# Altium footprint library cy.PcbLib: 99 footprints (part 3 of 7)
Each footprint in its own frame and in the unit in brackets; x right, y up, seen from the top. Pads: shape width x height; smd on the part's side, far side on the other; paste and mask are expansions set on the pad; w line width, h text height; cw(c..) or ccw(c..) is an arc to the next point about the centre after c.
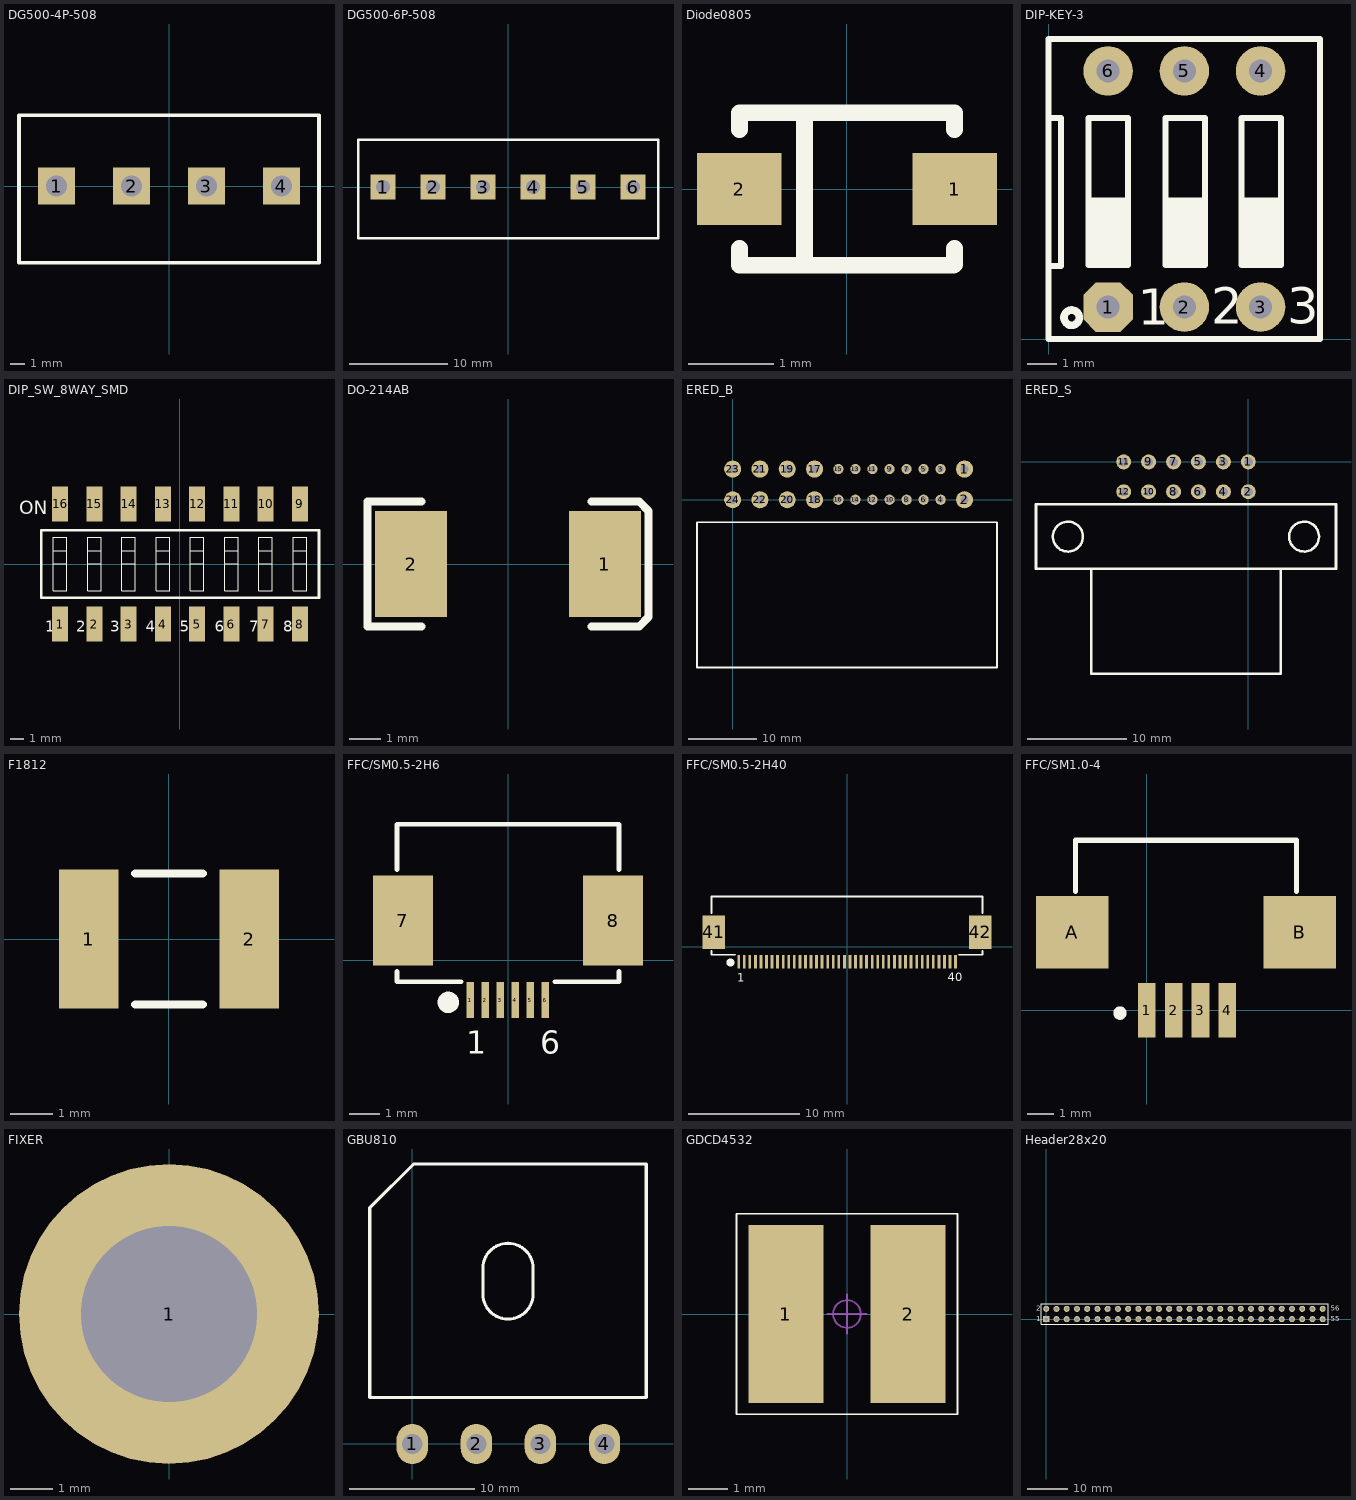
[diagram p2: the footprints below, top view; thin cyan lines are the x and y axes]

## DG500-4P-508 [mm]
pads (4):
  rect 2.5x2.5 hole 1.4: 1(-7.62,0) 2(-2.54,0) 3(2.54,0) 4(7.62,0)
Top Overlay:
  lines w0.254: -10.16,-5.2 -10.16,4.8 10.16,4.8 10.16,-5.2 -10.16,-5.2

## DG500-6P-508 [mm]
pads (6):
  rect 2.5x2.5 hole 1.4: 1(-12.7,0) 2(-7.62,0) 3(-2.54,0) 4(2.54,0) 5(7.62,0) 6(12.7,0)
Top Overlay:
  lines w0.254: -15.24,-5.2 15.24,-5.2 15.24,4.8 -15.24,4.8 -15.24,-5.2

## Diode0805 [mm]
height 6.86
pads (2):
  rect 1x0.85 smd: 1(1.27,0) 2(-1.27,0)
Top Overlay:
  lines w0.2: -1.27,-0.7 -1.27,-0.9 1.259,-0.9 1.27,-0.889 1.27,-0.7 ; -1.27,0.7 -1.27,0.9 1.27,0.9 1.27,0.7 ; -0.5,-0.9 -0.5,0.9
3D body: height 1, standoff 0, extent -0.914,-0.61 0.914,0.61
3D body: height 1.01, standoff 1, extent -0.635,-0.584 -0.356,0.584
3D body: height 0.11, standoff 0, extent -1.321,-0.203 -1.067,0.203
3D body: height 0.55, standoff 0.4, extent -1.118,-0.203 -0.864,0.203
3D body: height 0.4, standoff 0, extent -1.118,-0.203 -1.016,0.203
3D body: height 0.4, standoff 0, extent 1.016,-0.203 1.118,0.203
3D body: height 0.55, standoff 0.4, extent 0.864,-0.203 1.118,0.203
3D body: height 0.11, standoff 0, extent 1.067,-0.203 1.321,0.203

## DIP-KEY-3 [mm]
pads (6):
  oct 1.65x1.65 hole 0.762: 1(1.98,1.065)
  round 1.65 hole 0.762: 2(4.52,1.065) 3(7.06,1.065) 4(7.06,8.935) 5(4.52,8.935) 6(1.98,8.935)
Top Overlay:
  circle w0.254: c0.762,0.711 r0.254
  rectangle: 6.426,2.464 7.747,4.724
  rectangle: 3.886,2.464 5.207,4.724
  rectangle: 1.323,2.464 2.644,4.724
  lines w0.2: 0,2.438 0.406,2.438 0.406,7.366 0,7.366 ; 0,0 0,10 9.04,10 9.04,0 0,0 ; 1.323,2.464 1.323,7.366 2.644,7.366 2.644,2.464 1.323,2.464 ; 3.886,2.464 3.886,7.366 5.207,7.366 5.207,2.464 3.886,2.464 ; 6.426,2.464 6.426,7.366 7.747,7.366 7.747,2.464 6.426,2.464
  text "3" at 7.95,0.508 h1.2
  text "2" at 5.41,0.508 h1.2
  text "1" at 2.972,0.483 h1.2

## DIP_SW_8WAY_SMD [mm]
pads (16):
  rect 1.2x2.6 smd: 1(-8.89,-4.45) 2(-6.35,-4.45) 3(-3.81,-4.45) 4(-1.27,-4.45) 5(1.27,-4.45) 6(3.81,-4.45) 7(6.35,-4.45) 8(8.89,-4.45) 9(8.89,4.45) 10(6.35,4.45) 11(3.81,4.45) 12(1.27,4.45) 13(-1.27,4.45) 14(-3.81,4.45) 15(-6.35,4.45) 16(-8.89,4.45)
Top Overlay:
  lines w0.025: -9.39,0 -8.39,0 ; -9.39,1 -8.39,1 ; -6.85,0 -5.85,0 ; -6.85,1 -5.85,1 ; -4.31,0 -3.31,0 ; -4.31,1 -3.31,1 ; -1.77,0 -0.77,0 ; -1.77,1 -0.77,1 ; 0.77,0 1.77,0 ; 0.77,1 1.77,1 ; 3.31,0 4.31,0 ; 3.31,1 4.31,1 ; 5.85,0 6.85,0 ; 5.85,1 6.85,1 ; 8.39,0 9.39,0 ; 8.39,1 9.39,1 ; -9.39,-2 -8.39,-2 -8.39,2 -9.39,2 -9.39,-2 ; -6.85,-2 -5.85,-2 -5.85,2 -6.85,2 -6.85,-2 ; -4.31,-2 -3.31,-2 -3.31,2 -4.31,2 -4.31,-2 ; -1.77,-2 -0.77,-2 -0.77,2 -1.77,2 -1.77,-2 ; 0.77,-2 1.77,-2 1.77,2 0.77,2 0.77,-2 ; 3.31,-2 4.31,-2 4.31,2 3.31,2 3.31,-2 ; 5.85,-2 6.85,-2 6.85,2 5.85,2 5.85,-2 ; 8.39,-2 9.39,-2 9.39,2 8.39,2 8.39,-2
  lines w0.2: -10.29,-2.5 10.31,-2.5 10.31,2.5 -10.29,2.5 -10.29,-2.5
  text "8" at 7.659,-5.032 h0.8
  text "7" at 5.119,-5.032 h0.8
  text "ON" at -11.938,3.678 h1
  text "1" at -10.006,-5.032 h0.8
  text "2" at -7.681,-5.032 h0.8
  text "3" at -5.181,-5.032 h0.8
  text "4" at -2.556,-5.032 h0.8
  text "5" at -0.031,-5.032 h0.8
  text "6" at 2.569,-5.032 h0.8

## DO-214AB [mm]
pads (2):
  rect 2.3x3.4 smd: 1(3.1,0) 2(-3.1,0)
Top Overlay:
  lines w0.254: -2.768,-2 -4.5,-2 -4.5,2 -2.768,2 ; 2.668,-2 4.2,-2 4.5,-1.7 4.5,1.7 4.2,2 2.668,2

## ERED_B [mm]
pads (24):
  round 2.5 hole 1.2: 1(34,4.5) 2(34,0) 17(12,4.5) 18(12,0) 19(8,4.5) 20(8,0) 21(4,4.5) 22(4,0) 23(0,4.5) 24(0,0)
  round 1.5 hole 0.9: 3(30.5,4.5) 4(30.5,0) 5(28,4.5) 6(28,0) 7(25.5,4.5) 8(25.5,0) 9(23,4.5) 10(23,0) 11(20.5,4.5) 12(20.5,0) 13(18,4.5) 14(18,0) 15(15.5,4.5) 16(15.5,0)
Top Overlay:
  lines w0.254: -5.236,-3.3 16.764,-3.3 ; -5.236,-3.3 16.764,-3.3 ; -5.236,-3.3 -5.236,-24.6 16.764,-24.6 38.764,-24.6 38.764,-3.3 16.764,-3.3

## ERED_S [mm]
pads (12):
  round 1.5 hole 0.9: 1(0,0) 2(0,-3) 3(-2.5,0) 4(-2.5,-3) 5(-5,0) 6(-5,-3) 7(-7.5,0) 8(-7.5,-3) 9(-10,0) 10(-10,-3) 11(-12.5,0) 12(-12.5,-3)
Top Overlay:
  circle w0.254: c5.6,-7.5 r1.5
  circle w0.254: c-18.1,-7.5 r1.5
  lines w0.254: -15.75,-10.75 -15.75,-21.25 -6.25,-21.25 3.25,-21.25 3.25,-10.75 ; -21.3,-10.75 8.8,-10.75 8.8,-7.5 8.8,-4.25 -21.3,-4.25 -21.3,-7.5 -21.3,-10.75

## F1812 [mm]
pads (2):
  rect 1.4x3.3 smd: 1(-1.9,0) 2(1.9,0)
Top Overlay:
  lines w0.2: -0.8,-1.55 0.8,-1.55 ; -0.8,1.55 0.8,1.55
3D body: height 1.4, standoff 0, extent -2.4,-1.7 2.4,1.7

## FFC/SM0.5-2H6 [mm]
pads (8):
  rect 0.25x1.2 smd: 1(-1.254,-1.326) 2(-0.754,-1.326) 3(-0.254,-1.326) 4(0.246,-1.326) 5(0.746,-1.326) 6(1.246,-1.326)
  rect 2x3 smd: 7(-3.504,1.326) 8(3.504,1.326)
Top Overlay:
  circle w0.356: c-1.99,-1.402 r0.178
  lines w0.127: -3.704,-0.697 -3.692,-0.709
  lines w0.152: -3.704,-0.709 -1.558,-0.709 ; -3.704,-0.697 -3.704,-0.361 ; -3.704,3.017 -3.704,4.541 3.704,4.541 3.704,3.017 ; 1.558,-0.709 3.704,-0.709 ; 3.704,-0.697 3.704,-0.361
  text "1" at -1.395,-3.119 h0.76
  text "6" at 1.068,-3.119 h0.76

## FFC/SM0.5-2H40 [mm]
pads (42):
  rect 0.25x1.2 smd: 1(-9.737,-1.326) 2(-9.237,-1.326) 3(-8.737,-1.326) 4(-8.237,-1.326) 5(-7.737,-1.326) 6(-7.237,-1.326) 7(-6.737,-1.326) 8(-6.237,-1.326) 9(-5.737,-1.326) 10(-5.237,-1.326) 11(-4.737,-1.326) 12(-4.237,-1.326) 13(-3.737,-1.326) 14(-3.237,-1.326) 15(-2.737,-1.326) 16(-2.237,-1.326) 17(-1.737,-1.326) 18(-1.237,-1.326) 19(-0.737,-1.326) 20(-0.237,-1.326) 21(0.263,-1.326) 22(0.763,-1.326) 23(1.263,-1.326) 24(1.763,-1.326) 25(2.263,-1.326) 26(2.763,-1.326) 27(3.263,-1.326) 28(3.763,-1.326) 29(4.263,-1.326) 30(4.763,-1.326) 31(5.263,-1.326) 32(5.763,-1.326) 33(6.263,-1.326) 34(6.763,-1.326) 35(7.263,-1.326) 36(7.763,-1.326) 37(8.263,-1.326) 38(8.763,-1.326) 39(9.263,-1.326) 40(9.763,-1.326)
  rect 2x3 smd: 41(-11.987,1.326) 42(11.987,1.326)
Top Overlay:
  circle w0.356: c-10.474,-1.402 r0.178
  lines w0.127: -12.187,-0.697 -12.176,-0.709
  lines w0.152: -12.187,-0.709 -10.042,-0.709 ; -12.187,-0.697 -12.187,-0.361 ; -12.187,3.017 -12.187,4.541 12.187,4.541 12.187,3.043 ; 10.057,-0.717 12.187,-0.717 12.187,-0.361
  text "40" at 9.059,-3.104 h0.76
  text "1" at -9.879,-3.119 h0.76

## FFC/SM1.0-4 [mil]
pads (6):
  rect 26x80 smd: 1(0,0) 2(39.37,0) 3(78.74,0) 4(118.11,0)
  rect 106.3x106.3 smd: A(-110,115) B(225,115)
Top Overlay:
  circle w9.84: c-39.63,-4 r4.92
  lines w8: -105,175 -105,250 220,250 220,175

## FIXER [mm]
pads (1):
  round 7 hole 4.1: 1(0,0)

## GBU810 [mm]
pads (4):
  oval 2.5x3.2 hole 1.6: 1(0,0) 2(5.1,0) 3(10.2,0) 4(15.3,0)
Top Overlay:
  lines w0.254: -3.38,3.683 18.62,3.683 18.62,22.283 0.107,22.283 -3.293,18.883 -3.38,18.796 -3.38,3.683 ; 5.62,11.938 ccw(c7.62,11.938) 9.62,11.938 9.62,13.97 ccw(c7.62,13.97) 5.62,13.97 5.62,12.192 5.62,11.938

## GDCD4532 [mm]
height 5.3
pads (2):
  rect 1.9x4.5 smd: 1(-1.55,0) 2(1.55,0)
Top Overlay:
  lines w0.05: -2.794,-2.54 2.794,-2.54 2.794,2.54 -2.794,2.54 -2.794,-2.54
Mechanical 16:
  circle w0.05: c0,0 r0.35
  lines w0.05: -0.5,0 0.5,0 ; 0,-0.5 0,0.5

## Header28x20 [mm]
pads (56):
  rect 1.5x1.5 hole 0.9: 1(0,0)
  round 1.5 hole 0.9: 2(0,2.54) 3(2.54,0) 4(2.54,2.54) 5(5.08,0) 6(5.08,2.54) 7(7.62,0) 8(7.62,2.54) 9(10.16,0) 10(10.16,2.54) 11(12.7,0) 12(12.7,2.54) 13(15.24,0) 14(15.24,2.54) 15(17.78,0) 16(17.78,2.54) 17(20.32,0) 18(20.32,2.54) 19(22.86,0) 20(22.86,2.54) 21(25.4,0) 22(25.4,2.54) 23(27.94,0) 24(27.94,2.54) 25(30.48,0) 26(30.48,2.54) 27(33.02,0) 28(33.02,2.54) 29(35.56,0) 30(35.56,2.54) 31(38.1,0) 32(38.1,2.54) 33(40.64,0) 34(40.64,2.54) 35(43.18,0) 36(43.18,2.54) 37(45.72,0) 38(45.72,2.54) 39(48.26,0) 40(48.26,2.54) 41(50.8,0) 42(50.8,2.54) 43(53.34,0) 44(53.34,2.54) 45(55.88,0) 46(55.88,2.54) 47(58.42,0) 48(58.42,2.54) 49(60.96,0) 50(60.96,2.54) 51(63.5,0) 52(63.5,2.54) 53(66.04,0) 54(66.04,2.54) 55(68.58,0) 56(68.58,2.54)
Top Overlay:
  lines w0.2: -1.27,-1.27 69.98,-1.27 69.98,3.81 -1.27,3.81 -1.27,-1.27
  text "56" at 70.612,2.032 h1.27
  text "55" at 70.612,-0.508 h1.27
  text "2" at -2.54,2.032 h1.27
  text "1" at -2.54,-0.508 h1.27